# Altium footprint library WURTH 691508110306.PCBLIB: 1 footprints
Each footprint in its own frame and in the unit in brackets; x right, y up, seen from the top. Pads: shape width x height; smd on the part's side, far side on the other; paste and mask are expansions set on the pad; w line width, h text height; cw(c..) or ccw(c..) is an arc to the next point about the centre after c.
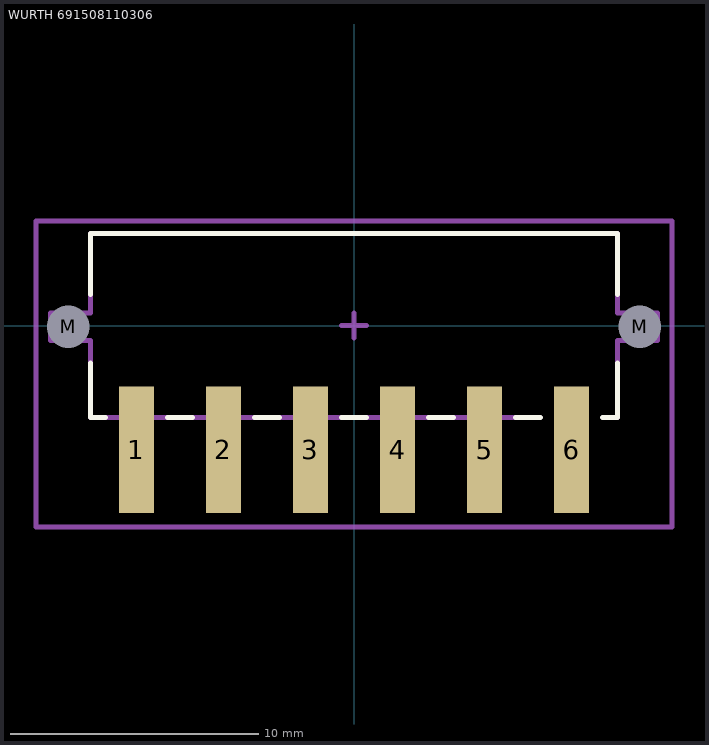
[diagram p0: the footprint, top view; thin cyan lines are the x and y axes]

## WURTH 691508110306 [mm]
height 11.2
pads (8):
  rect 1.4x5.1 smd: 1(-8.75,-5) 2(-5.25,-5) 3(-1.75,-5) 4(1.75,-5) 5(5.25,-5) 6(8.75,-5)
  round 1 hole 1.7 unplated: M(-11.5,-0.05) M(11.5,-0.05)
Top Overlay:
  lines w0.2: -10.6,-1.5 -10.6,-3.7 -10,-3.7 ; -10.6,1.25 -10.6,3.7 10.6,3.7 10.6,1.25 ; -7.5,-3.7 -6.5,-3.7 ; -4,-3.7 -3,-3.7 ; -0.5,-3.7 0.5,-3.7 ; 3,-3.7 4,-3.7 ; 6.5,-3.7 7.5,-3.7 ; 10,-3.7 10.6,-3.7 10.6,-1.5
Mechanical 1:
  lines w0.2: 7.1,-3.7 -10.6,-3.7 -10.6,-0.6 -12.2,-0.6 -12.2,0.5 -10.6,0.5 -10.6,3.7 7.1,3.7 ; 10.6,-3.7 10.6,-0.6 12.2,-0.6 12.2,0.5 10.6,0.5 10.6,3.7
Mechanical 15:
  lines w0.2: -0.5,0 0.5,0 ; 0,-0.5 0,0.5 ; -12.8,-8.1 12.8,-8.1 12.8,4.2 -12.8,4.2 -12.8,-8.1
3D body "Wurth 691508110306.STEP": height 11.2, standoff -2, extent -12.175,-7.2 12.175,3.7